# Altium integrated library Integrated_Library1.IntLib: 27 symbols
Pins are listed as number, name and electrical type; pins without a type are passive.

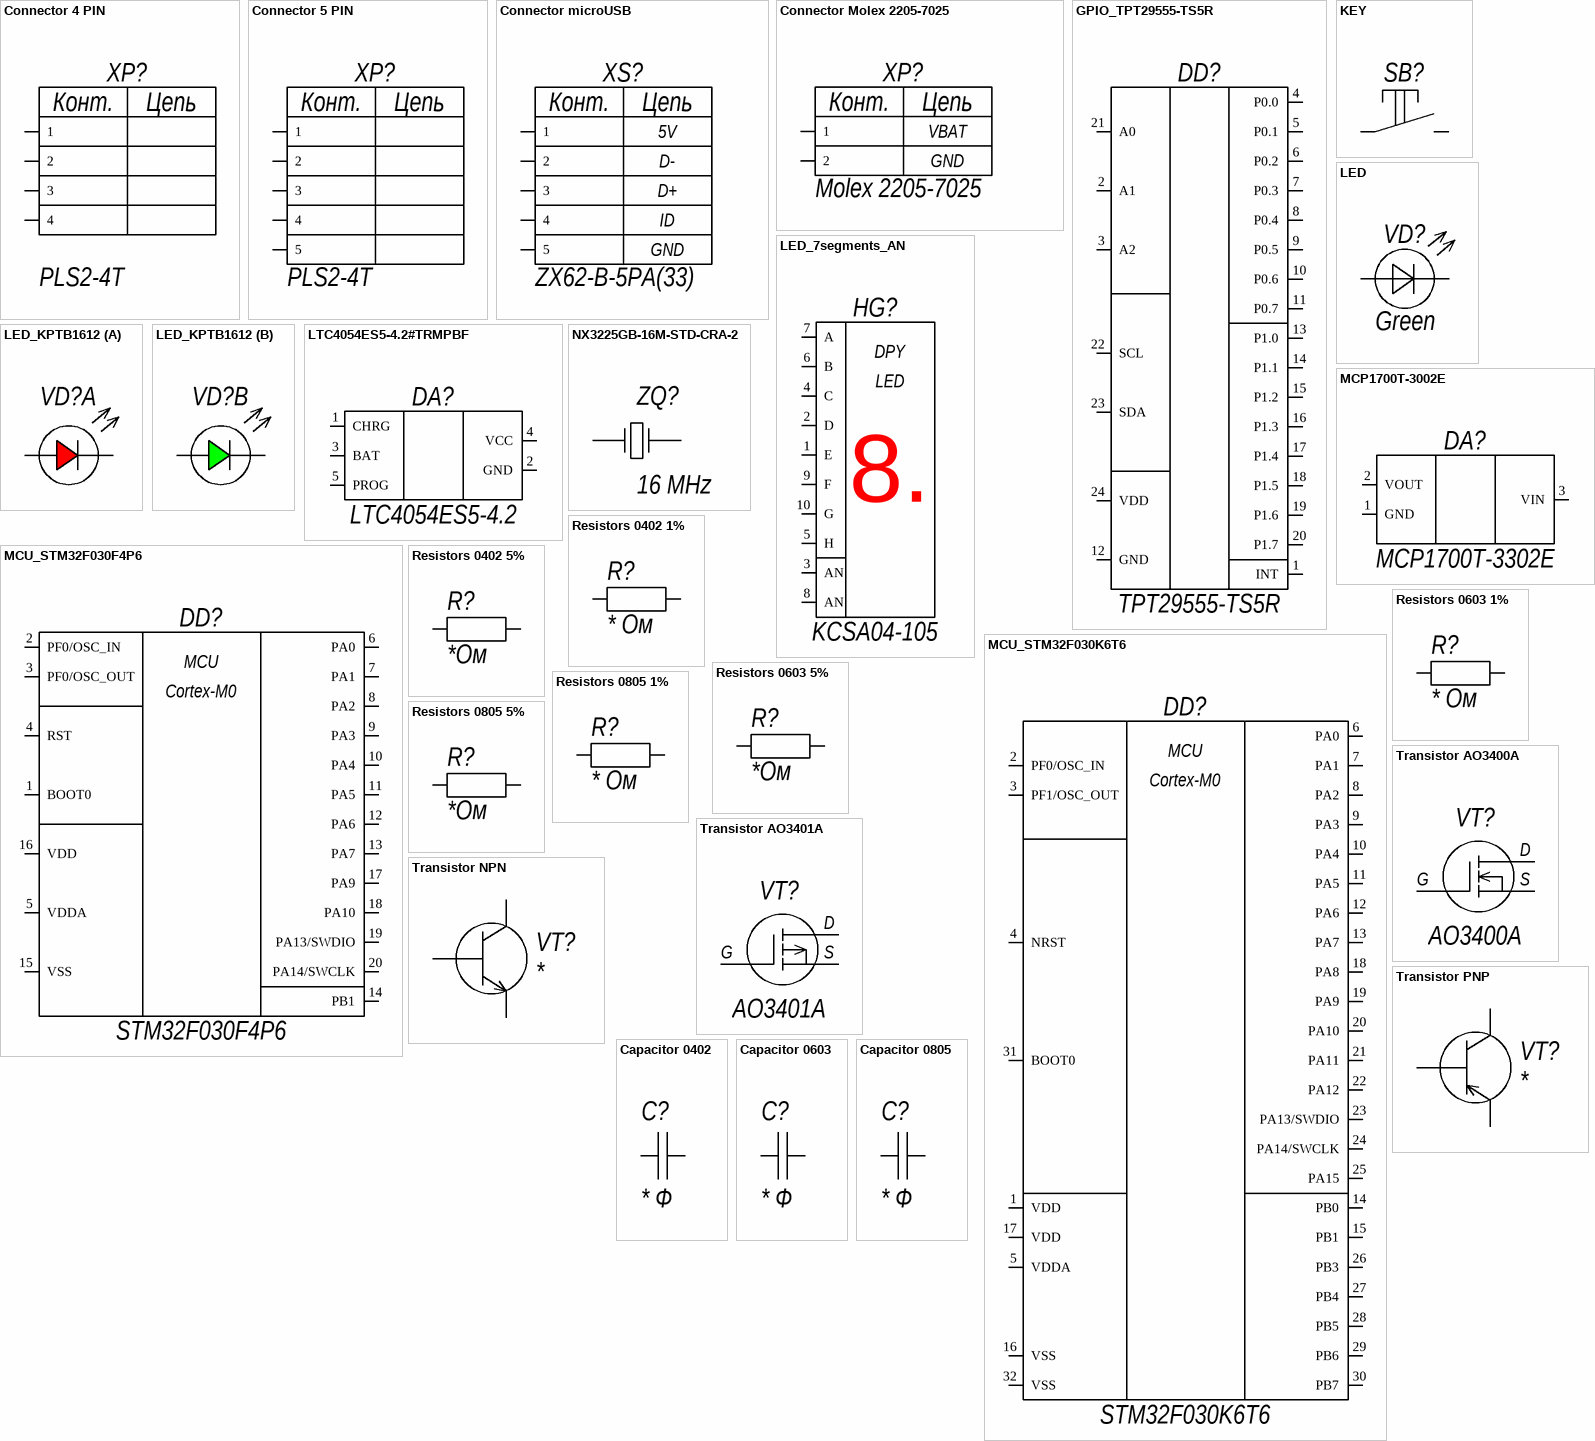
[diagram p0: symbols Connector 4 PIN to Сapacitor 0805]

## Connector 4 PIN
designator XP?, comment PLS2-4T
PLS2-4T SMD; GOST_Value: PLS2-4T SMD; Machine_Name: PLS2-4T SMD
footprint PLS2-4T
pins: 1, 2, 3, 4
text: Конт.; Цепь

## Connector 5 PIN
designator XP?, comment PLS2-4T
PLS2-4T SMD; GOST_Value: PLS2-4T SMD; Machine_Name: PLS2-4T SMD
footprint PLS2-5T
pins: 1, 2, 3, 4, 5
text: Конт.; Цепь

## Connector microUSB
designator XS?, comment ZX62-B-5PA(33)
ZX62-B-5PA(33), Разъем Micro USB B ZX-серия на плату угловой 5 контактов; GOST_Value: ZX62-B-5PA(33); Machine_Name: ZX62-B-5PA(33)
footprint ZX62B5PA33
pins: 1, 2, 3, 4, 5
text: Конт.; Цепь; 5V; D-; D+; ID; GND

## Connector Molex 2205-7025
designator XP?, comment Molex 2205-7025
Угловой; GOST_Value: Molex 2205-7025; Machine_Name: Molex 2205-7025
footprint 22-05-7025
pins: 1, 2
text: Конт.; Цепь; VBAT; GND

## GPIO_TPT29555-TS5R
designator DD?, comment TPT29555-TS5R
Расширитель входа-выхода 16-бит с прерыванием шина I2C питание 1.65....5.5В; GOST_Package: TSSOP-24; GOST_Structure: I2C; Machine_Name: TPT29555-TS5R; GOST_Value: TPT29555-TS5R
pins: 1 INT, 2 A1, 3 A2, 4 P0.0, 5 P0.1, 6 P0.2, 7 P0.3, 8 P0.4, 9 P0.5, 10 P0.6, 11 P0.7, 12 GND, 13 P1.0, 14 P1.1, 15 P1.2, 16 P1.3, 17 P1.4, 18 P1.5, 19 P1.6, 20 P1.7, 21 A0, 22 SCL, 23 SDA, 24 VDD

## KEY
designator SB?  (value not drawn)
footprint Chip2PinSM127P600-8N
pins: 1, 2

## LED
designator VD?, comment Green
footprint LED3224
pins: 1 Catode, 2 Anode

## LED_7segments_AN
designator HG?, comment KCSA04-105
GOST_Value: Knightbright KCSA04-105; Machine_Name: KCSA04-105
footprint KCSA04-105 (2)
pins: 1 E, 2 D, 3 AN, 4 C, 5 H, 6 B, 7 A, 8 AN, 9 F, 10 G
text: DPY; LED; 8.

## LED_KPTB1612
designator VD?, comment KPTB-1612SURKCGKC  (value not drawn)
GOST_Value: KPTB-1612SURKCGKC; Machine_Name: KPTB-1612
footprint KPTB1612
part A pins: 1 Anode, 2 Catode
part B pins: 3 Anode, 4 Catode

## LTC4054ES5-4.2#TRMPBF
designator DA?, comment LTC4054ES5-4.2
GOST_Package: SOT23-5; GOST_Value: LTC4054ES5-4.2#TRMPBF; Machine_Name: LTC4054
footprint SOT23-5 (SOT23, 5-Leads, Body 2.90x2.80mm, Pitch 0.95mm, IPC Medium Density)
pins: 1 CHRG, 2 GND, 3 BAT, 4 VCC, 5 PROG

## MCP1700T-3002E
designator DA?, comment MCP1700T-3302E
GOST_Package: SOT23-5; GOST_Value: LTC4054ES5-4.2#TRMPBF; Machine_Name: LTC4054
footprint SOT23 (SOT23, 3-Leads, Body 2.90x2.45mm, Pitch 0.95mm, IPC Medium Density)
pins: 1 GND, 2 VOUT, 3 VIN

## MCU_STM32F030F4P6
designator DD?, comment STM32F030F4P6
GOST_Package: TSSOP-20; GOST_Structure: Cortex-M0; Machine_Name: STM32F030F4P6; GOST_Value: STM32F030F4P6
footprint TSSOP-20 (TSOP, 20-Leads, Body 6.50x4.40mm, Pitch 0.65mm, IPC Medium Density)
pins: 1 BOOT0, 2 PF0/OSC_IN, 3 PF0/OSC_OUT, 4 RST, 5 VDDA, 6 PA0, 7 PA1, 8 PA2, 9 PA3, 10 PA4, 11 PA5, 12 PA6, 13 PA7, 14 PB1, 15 VSS, 16 VDD, 17 PA9, 18 PA10, 19 PA13/SWDIO, 20 PA14/SWCLK
text: MCU

## MCU_STM32F030K6T6
designator DD?, comment STM32F030K6T6
GOST_Package: LQFP-32; GOST_Structure: Cortex-M0; Machine_Name: STM32F030K6T6; GOST_Value: STM32F030K6T6
footprint LQFP-32 (LQFP, 32-Leads, Body 7.00x7.00mm, Pitch 0.80mm, IPC Medium Density)
pins: 1 VDD, 2 PF0/OSC_IN, 3 PF1/OSC_OUT, 4 NRST, 5 VDDA, 6 PA0, 7 PA1, 8 PA2, 9 PA3, 10 PA4, 11 PA5, 12 PA6, 13 PA7, 14 PB0, 15 PB1, 16 VSS, 17 VDD, 18 PA8, 19 PA9, 20 PA10, 21 PA11, 22 PA12, 23 PA13/SWDIO, 24 PA14/SWCLK, 25 PA15, 26 PB3, 27 PB4, 28 PB5, 29 PB6, 30 PB7, 31 BOOT0, 32 VSS
text: MCU

## NX3225GB-16M-STD-CRA-2
designator ZQ?, comment 16 MHz
Чип кварц; GOST_Value: NX3225GB-16M-STD-CRA-2; Machine_Name: 16M
footprint NX3225GB
pins: 1, 2

## Resistors 0402 1%
designator R?, comment * Ом
GOST_Tolerance: ±1%; GOST_Power: 0,062 Вт; GOST_Package: 0402; GOST_Value: * Ом; Machine_Name: *
footprint R0402 (Chip Resistor, 2-Leads, Body 1.00x0.50mm, IPC Medium Density)
pins: 1, 2

## Resistors 0402 5%
designator R?, comment *Ом
GOST_Tolerance: ±5%; GOST_Power: 0,062 Вт; GOST_Package: 0402; GOST_Value: *Ом; Machine_Name: *
footprint R0402 (Chip Resistor, 2-Leads, Body 1.00x0.50mm, IPC Medium Density)
pins: 1, 2

## Resistors 0603 1%
designator R?, comment * Ом
GOST_Tolerance: ±1%; GOST_Power: 0,1 Вт; GOST_Package: 0603; GOST_Value: * Ом; Machine_Name: *
footprint R0603 (Chip Resistor, 2-Leads, Body 1.60x0.80mm, IPC Medium Density)
pins: 1, 2

## Resistors 0603 5%
designator R?, comment *Ом
GOST_Tolerance: ±5%; GOST_Power: 0,1 Вт; GOST_Package: 0603; GOST_Value: *Ом; Machine_Name: *
footprint R0603 (Chip Resistor, 2-Leads, Body 1.60x0.80mm, IPC Medium Density)
pins: 1, 2

## Resistors 0805 1%
designator R?, comment * Ом
GOST_Tolerance: ±1%; GOST_Power: 0,125 Вт; GOST_Package: 0805; GOST_Value: * Ом; Machine_Name: *
footprint R0805 (Chip Resistor, 2-Leads, Body 2.00x1.25mm, IPC Medium Density)
pins: 1, 2

## Resistors 0805 5%
designator R?, comment *Ом
GOST_Tolerance: ±5%; GOST_Power: 0,125 Вт; GOST_Package: 0805; GOST_Value: *Ом; Machine_Name: *
footprint R0805 (Chip Resistor, 2-Leads, Body 2.00x1.25mm, IPC Medium Density)
pins: 1, 2

## Transistor AO3400A
designator VT?, comment AO3400A
N-Chanell MOSFET; GOST_Structure: N-MOSFET; GOST_Package: SOT-23; GOST_Value: AO3400A; Machine_Name: AO3400A
footprint SOT23 (SOT23, 3-Leads, Body 2.90x2.45mm, Pitch 0.95mm, IPC Medium Density)
pins: 1 G, 2 S, 3 D

## Transistor AO3401A
designator VT?, comment AO3401A
P-Chanell MOSFET; GOST_Structure: P-MOSFET; GOST_Package: SOT-23; GOST_Value: AO3401A; Machine_Name: AO3401A
footprint SOT23 (SOT23, 3-Leads, Body 2.90x2.45mm, Pitch 0.95mm, IPC Medium Density)
pins: 1 G, 2 S, 3 D

## Transistor NPN
designator VT?
GOST_Structure: NPN; GOST_Package: *; Machine_Name: *; GOST_Value: *
footprint SOT23 (SOT23, 3-Leads, Body 2.90x2.45mm, Pitch 0.95mm, IPC Medium Density)
pins: 1 B "Base", 2 E "Emmiter", 3 C "Collector"

## Transistor PNP
designator VT?
GOST_Structure: PNP; GOST_Package: *; Machine_Name: *; GOST_Value: *
footprint SOT23 (SOT23, 3-Leads, Body 2.90x2.45mm, Pitch 0.95mm, IPC Medium Density)
pins: 1 B "Base", 2 E "Emmiter", 3 C "Collector"

## Сapacitor 0402
designator C?, comment * Ф
GOST_Package: 0402; GOST_Power: * В; GOST_Tolerance: ±*%; GOST_Value: * Ф
footprint C0402 (Chip Capacitor, 2-Leads, Body 1.00x0.50mm, IPC Medium Density)
pins: 1, 2

## Сapacitor 0603
designator C?, comment * Ф
GOST_Package: 0603; GOST_Power: * В; GOST_Tolerance: ±*%; GOST_Value: * Ф
footprint C0603 (Chip Capacitor, 2-Leads, Body 1.60x0.80mm, IPC Medium Density)
pins: 1, 2

## Сapacitor 0805
designator C?, comment * Ф
GOST_Package: 0805; GOST_Power: * В; GOST_Tolerance: ±*%; GOST_Value: * Ф
footprint C0805 (Chip Capacitor, 2-Leads, Body 2.00x1.25mm, IPC Medium Density)
pins: 1, 2